# EAGLE library part 5CEFA7F23 (library altera)
5CEFA7F23_ALL_PINS edit this description Auto generated by make-symbol-device-package-bsdl.ulp Rev. 44 Source: 5CEFA7F23_ALL_PINS.txt Connect-List generated from 5CEFA7F23_ALL_PINS.DEV Variant ALL with split-device-symbol.ulp
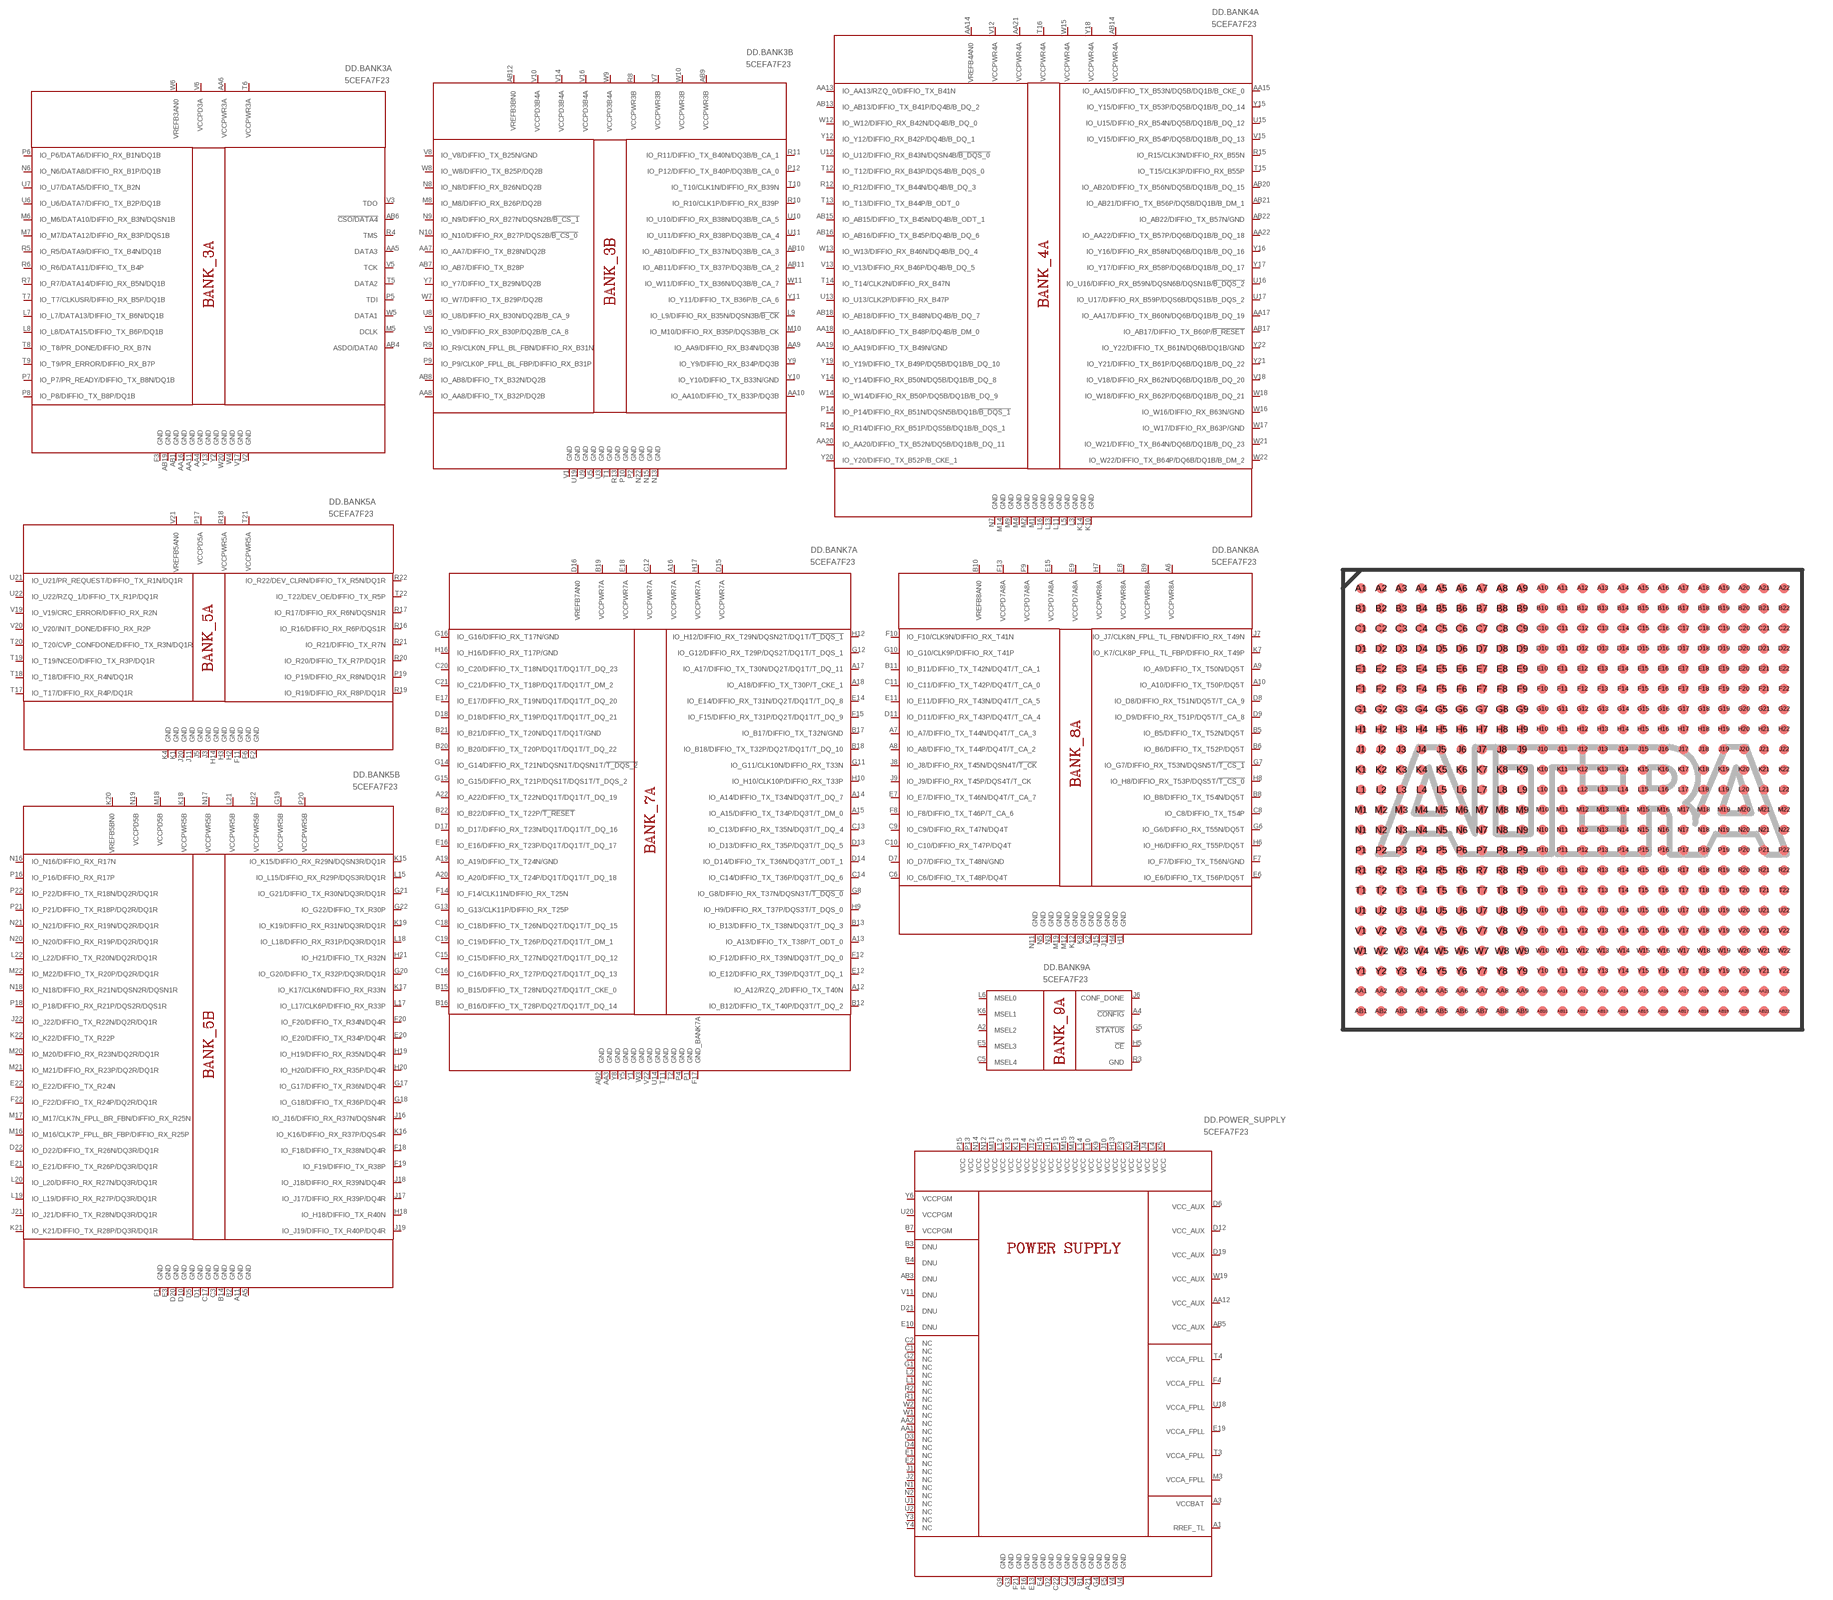
[diagram p0: symbol with the pads of FBGA484; footprint FBGA484]

Designator prefix DD; gates .BANK3A=5CEFA7F23_BANK3A .BANK3B=5CEFA7F23_BANK3B .BANK4A=5CEFA7F23_BANK4A .BANK5A=5CEFA7F23_BANK5A .BANK5B=5CEFA7F23_BANK5B .BANK7A=5CEFA7F23_BANK7A .BANK8A=5CEFA7F23_BANK8A .BANK9A=5CEFA7F23_BANK9A .POWER_SUPPLY=5CEFA7F23_POWER_SUPPLY

## 5CEFA7F23I7  [FBGA484]
A1  .POWER_SUPPLY:RREF_TL  pwr
A2  .BANK9A:MSEL2  in
A3  .POWER_SUPPLY:VCCBAT  pwr
A4  .BANK9A:!CONFIG
A5  .BANK5B:GND  pwr
A6  .BANK8A:VCCPWR8A  pwr
A7  .BANK8A:IO_A7/DIFFIO_TX_T44N/DQ4T/T_CA_3
A8  .BANK8A:IO_A8/DIFFIO_TX_T44P/DQ4T/T_CA_2
A9  .BANK8A:IO_A9/DIFFIO_TX_T50N/DQ5T
A10  .BANK8A:IO_A10/DIFFIO_TX_T50P/DQ5T
A11  .BANK5B:GND  pwr
A12  .BANK7A:IO_A12/RZQ_2/DIFFIO_TX_T40N
A13  .BANK7A:IO_A13/DIFFIO_TX_T38P/T_ODT_0
A14  .BANK7A:IO_A14/DIFFIO_TX_T34N/DQ3T/T_DQ_7
A15  .BANK7A:IO_A15/DIFFIO_TX_T34P/DQ3T/T_DM_0
A16  .BANK7A:VCCPWR7A  pwr
A17  .BANK7A:IO_A17/DIFFIO_TX_T30N/DQ2T/DQ1T/T_DQ_11
A18  .BANK7A:IO_A18/DIFFIO_TX_T30P/T_CKE_1
A19  .BANK7A:IO_A19/DIFFIO_TX_T24N/GND
A20  .BANK7A:IO_A20/DIFFIO_TX_T24P/DQ1T/DQ1T/T_DQ_18
A21  .POWER_SUPPLY:GND  pwr
A22  .BANK7A:IO_A22/DIFFIO_TX_T22N/DQ1T/DQ1T/T_DQ_19
AA1  .POWER_SUPPLY:NC  nc
AA2  .POWER_SUPPLY:NC  nc
AA3  .BANK7A:GND  pwr
AA4  .BANK3A:GND  pwr
AA5  .BANK3A:DATA3
AA6  .BANK3A:VCCPWR3A  pwr
AA7  .BANK3B:IO_AA7/DIFFIO_TX_B28N/DQ2B
AA8  .BANK3B:IO_AA8/DIFFIO_TX_B32P/DQ2B
AA9  .BANK3B:IO_AA9/DIFFIO_RX_B34N/DQ3B
AA10  .BANK3B:IO_AA10/DIFFIO_TX_B33P/DQ3B
AA11  .BANK3A:GND  pwr
AA12  .POWER_SUPPLY:VCC_AUX  pwr
AA13  .BANK4A:IO_AA13/RZQ_0/DIFFIO_TX_B41N
AA14  .BANK4A:VREFB4AN0  pwr
AA15  .BANK4A:IO_AA15/DIFFIO_TX_B53N/DQ5B/DQ1B/B_CKE_0
AA16  .BANK3A:GND  pwr
AA17  .BANK4A:IO_AA17/DIFFIO_TX_B60N/DQ6B/DQ1B/B_DQ_19
AA18  .BANK4A:IO_AA18/DIFFIO_TX_B48P/DQ4B/B_DM_0
AA19  .BANK4A:IO_AA19/DIFFIO_TX_B49N/GND
AA20  .BANK4A:IO_AA20/DIFFIO_TX_B52N/DQ5B/DQ1B/B_DQ_11
AA21  .BANK4A:VCCPWR4A  pwr
AA22  .BANK4A:IO_AA22/DIFFIO_TX_B57P/DQ6B/DQ1B/B_DQ_18
AB1  .BANK3A:GND  pwr
AB2  .BANK7A:GND  pwr
AB3  .POWER_SUPPLY:DNU  pwr
AB4  .BANK3A:ASDO/DATA0
AB5  .POWER_SUPPLY:VCC_AUX  pwr
AB6  .BANK3A:!CSO/DATA4
AB7  .BANK3B:IO_AB7/DIFFIO_TX_B28P
AB8  .BANK3B:IO_AB8/DIFFIO_TX_B32N/DQ2B
AB9  .BANK3B:VCCPWR3B  pwr
AB10  .BANK3B:IO_AB10/DIFFIO_TX_B37N/DQ3B/B_CA_3
AB11  .BANK3B:IO_AB11/DIFFIO_TX_B37P/DQ3B/B_CA_2
AB12  .BANK3B:VREFB3BN0  pwr
AB13  .BANK4A:IO_AB13/DIFFIO_TX_B41P/DQ4B/B_DQ_2
AB14  .BANK4A:VCCPWR4A  pwr
AB15  .BANK4A:IO_AB15/DIFFIO_TX_B45N/DQ4B/B_ODT_1
AB16  .BANK4A:IO_AB16/DIFFIO_TX_B45P/DQ4B/B_DQ_6
AB17  .BANK4A:IO_AB17/DIFFIO_TX_B60P/!B_RESET
AB18  .BANK4A:IO_AB18/DIFFIO_TX_B48N/DQ4B/B_DQ_7
AB19  .BANK3A:GND  pwr
AB20  .BANK4A:IO_AB20/DIFFIO_TX_B56N/DQ5B/DQ1B/B_DQ_15
AB21  .BANK4A:IO_AB21/DIFFIO_TX_B56P/DQ5B/DQ1B/B_DM_1
AB22  .BANK4A:IO_AB22/DIFFIO_TX_B57N/GND
B1  .POWER_SUPPLY:GND  pwr
B2  .BANK5B:GND  pwr
B3  .POWER_SUPPLY:DNU  pwr
B4  .POWER_SUPPLY:DNU  pwr
B5  .BANK8A:IO_B5/DIFFIO_TX_T52N/DQ5T
B6  .BANK8A:IO_B6/DIFFIO_TX_T52P/DQ5T
B7  .POWER_SUPPLY:VCCPGM  pwr
B8  .BANK8A:IO_B8/DIFFIO_TX_T54N/DQ5T
B9  .BANK8A:VCCPWR8A  pwr
B10  .BANK8A:VREFB8AN0  pwr
B11  .BANK8A:IO_B11/DIFFIO_TX_T42N/DQ4T/T_CA_1
B12  .BANK7A:IO_B12/DIFFIO_TX_T40P/DQ3T/T_DQ_2
B13  .BANK7A:IO_B13/DIFFIO_TX_T38N/DQ3T/T_DQ_3
B14  .BANK5B:GND  pwr
B15  .BANK7A:IO_B15/DIFFIO_TX_T28N/DQ2T/DQ1T/T_CKE_0
B16  .BANK7A:IO_B16/DIFFIO_TX_T28P/DQ2T/DQ1T/T_DQ_14
B17  .BANK7A:IO_B17/DIFFIO_TX_T32N/GND
B18  .BANK7A:IO_B18/DIFFIO_TX_T32P/DQ2T/DQ1T/T_DQ_10
B19  .BANK7A:VCCPWR7A  pwr
B20  .BANK7A:IO_B20/DIFFIO_TX_T20P/DQ1T/DQ1T/T_DQ_22
B21  .BANK7A:IO_B21/DIFFIO_TX_T20N/DQ1T/DQ1T/GND
B22  .BANK7A:IO_B22/DIFFIO_TX_T22P/!T_RESET
C1  .POWER_SUPPLY:NC  nc
C2  .POWER_SUPPLY:NC  nc
C3  .BANK5B:GND  pwr
C4  .POWER_SUPPLY:GND  pwr
C5  .BANK9A:MSEL4  in
C6  .BANK8A:IO_C6/DIFFIO_TX_T48P/DQ4T
C7  .POWER_SUPPLY:GND  pwr
C8  .BANK8A:IO_C8/DIFFIO_TX_T54P
C9  .BANK8A:IO_C9/DIFFIO_RX_T47N/DQ4T
C10  .BANK8A:IO_C10/DIFFIO_RX_T47P/DQ4T
C11  .BANK8A:IO_C11/DIFFIO_TX_T42P/DQ4T/T_CA_0
C12  .BANK7A:VCCPWR7A  pwr
C13  .BANK7A:IO_C13/DIFFIO_RX_T35N/DQ3T/T_DQ_4
C14  .BANK7A:IO_C14/DIFFIO_TX_T36P/DQ3T/T_DQ_6
C15  .BANK7A:IO_C15/DIFFIO_RX_T27N/DQ2T/DQ1T/T_DQ_12
C16  .BANK7A:IO_C16/DIFFIO_RX_T27P/DQ2T/DQ1T/T_DQ_13
C17  .BANK5B:GND  pwr
C18  .BANK7A:IO_C18/DIFFIO_TX_T26N/DQ2T/DQ1T/T_DQ_15
C19  .BANK7A:IO_C19/DIFFIO_TX_T26P/DQ2T/DQ1T/T_DM_1
C20  .BANK7A:IO_C20/DIFFIO_TX_T18N/DQ1T/DQ1T/T_DQ_23
C21  .BANK7A:IO_C21/DIFFIO_TX_T18P/DQ1T/DQ1T/T_DM_2
C22  .POWER_SUPPLY:GND  pwr
D1  .BANK5B:GND  pwr
D2  .POWER_SUPPLY:GND  pwr
D3  .POWER_SUPPLY:NC  nc
D4  .POWER_SUPPLY:NC  nc
D5  .BANK5B:GND  pwr
D6  .POWER_SUPPLY:VCC_AUX  pwr
D7  .BANK8A:IO_D7/DIFFIO_TX_T48N/GND
D8  .BANK8A:IO_D8/DIFFIO_RX_T51N/DQ5T/T_CA_9
D9  .BANK8A:IO_D9/DIFFIO_RX_T51P/DQ5T/T_CA_8
D10  .BANK5B:GND  pwr
D11  .BANK8A:IO_D11/DIFFIO_RX_T43P/DQ4T/T_CA_4
D12  .POWER_SUPPLY:VCC_AUX  pwr
D13  .BANK7A:IO_D13/DIFFIO_RX_T35P/DQ3T/T_DQ_5
D14  .BANK7A:IO_D14/DIFFIO_TX_T36N/DQ3T/T_ODT_1
D15  .BANK7A:VCCPWR7A  pwr
D16  .BANK7A:VREFB7AN0  pwr
D17  .BANK7A:IO_D17/DIFFIO_RX_T23N/DQ1T/DQ1T/T_DQ_16
D18  .BANK7A:IO_D18/DIFFIO_RX_T19P/DQ1T/DQ1T/T_DQ_21
D19  .POWER_SUPPLY:VCC_AUX  pwr
D20  .BANK5B:GND  pwr
D21  .POWER_SUPPLY:DNU  pwr
D22  .BANK5B:IO_D22/DIFFIO_TX_R26N/DQ3R/DQ1R
E1  .POWER_SUPPLY:NC  nc
E2  .POWER_SUPPLY:NC  nc
E3  .BANK5B:GND  pwr
E4  .POWER_SUPPLY:GND  pwr
E5  .BANK9A:MSEL3  in
E6  .BANK8A:IO_E6/DIFFIO_TX_T56P/DQ5T
E7  .BANK8A:IO_E7/DIFFIO_TX_T46N/DQ4T/T_CA_7
E8  .BANK8A:VCCPWR8A  pwr
E9  .BANK8A:VCCPD7A8A  pwr
E10  .POWER_SUPPLY:DNU  pwr
E11  .BANK8A:IO_E11/DIFFIO_RX_T43N/DQ4T/T_CA_5
E12  .BANK7A:IO_E12/DIFFIO_RX_T39P/DQ3T/T_DQ_1
E13  .POWER_SUPPLY:GND  pwr
E14  .BANK7A:IO_E14/DIFFIO_RX_T31N/DQ2T/DQ1T/T_DQ_8
E15  .BANK8A:VCCPD7A8A  pwr
E16  .BANK7A:IO_E16/DIFFIO_RX_T23P/DQ1T/DQ1T/T_DQ_17
E17  .BANK7A:IO_E17/DIFFIO_RX_T19N/DQ1T/DQ1T/T_DQ_20
E18  .BANK7A:VCCPWR7A  pwr
E19  .POWER_SUPPLY:VCCA_FPLL  pwr
E20  .BANK5B:IO_E20/DIFFIO_TX_R34P/DQ4R
E21  .BANK5B:IO_E21/DIFFIO_TX_R26P/DQ3R/DQ1R
E22  .BANK5B:IO_E22/DIFFIO_TX_R24N
F1  .BANK5B:GND  pwr
F2  .BANK5A:GND  pwr
F3  .BANK3A:GND  pwr
F4  .POWER_SUPPLY:VCCA_FPLL  pwr
F5  .POWER_SUPPLY:GND  pwr
F6  .BANK5A:GND  pwr
F7  .BANK8A:IO_F7/DIFFIO_TX_T56N/GND
F8  .BANK8A:IO_F8/DIFFIO_TX_T46P/T_CA_6
F9  .BANK8A:VCCPD7A8A  pwr
F10  .BANK8A:IO_F10/CLK9N/DIFFIO_RX_T41N
F11  .BANK5A:GND  pwr
F12  .BANK7A:IO_F12/DIFFIO_RX_T39N/DQ3T/T_DQ_0
F13  .BANK8A:VCCPD7A8A  pwr
F14  .BANK7A:IO_F14/CLK11N/DIFFIO_RX_T25N
F15  .BANK7A:IO_F15/DIFFIO_RX_T31P/DQ2T/DQ1T/T_DQ_9
F16  .POWER_SUPPLY:GND  pwr
F17  .BANK7A:GND_BANK7A  pwr
F18  .BANK5B:IO_F18/DIFFIO_TX_R38N/DQ4R
F19  .BANK5B:IO_F19/DIFFIO_TX_R38P
F20  .BANK5B:IO_F20/DIFFIO_TX_R34N/DQ4R
F21  .POWER_SUPPLY:GND  pwr
F22  .BANK5B:IO_F22/DIFFIO_TX_R24P/DQ2R/DQ1R
G1  .POWER_SUPPLY:NC  nc
G2  .POWER_SUPPLY:NC  nc
G3  .POWER_SUPPLY:GND  pwr
G4  .POWER_SUPPLY:GND  pwr
G5  .BANK9A:!STATUS
G6  .BANK8A:IO_G6/DIFFIO_RX_T55N/DQ5T
G7  .BANK8A:IO_G7/DIFFIO_RX_T53N/DQSN5T/!T_CS_1
G8  .BANK7A:IO_G8/DIFFIO_RX_T37N/DQSN3T/!T_DQS_0
G9  .POWER_SUPPLY:GND  pwr
G10  .BANK8A:IO_G10/CLK9P/DIFFIO_RX_T41P
G11  .BANK7A:IO_G11/CLK10N/DIFFIO_RX_T33N
G12  .BANK7A:IO_G12/DIFFIO_RX_T29P/DQS2T/DQ1T/T_DQS_1
G13  .BANK7A:IO_G13/CLK11P/DIFFIO_RX_T25P
G14  .BANK7A:IO_G14/DIFFIO_RX_T21N/DQSN1T/DQSN1T/!T_DQS_2
G15  .BANK7A:IO_G15/DIFFIO_RX_T21P/DQS1T/DQS1T/T_DQS_2
G16  .BANK7A:IO_G16/DIFFIO_RX_T17N/GND
G17  .BANK5B:IO_G17/DIFFIO_TX_R36N/DQ4R
G18  .BANK5B:IO_G18/DIFFIO_TX_R36P/DQ4R
G19  .BANK5B:VCCPWR5B  pwr
G20  .BANK5B:IO_G20/DIFFIO_TX_R32P/DQ3R/DQ1R
G21  .BANK5B:IO_G21/DIFFIO_TX_R30N/DQ3R/DQ1R
G22  .BANK5B:IO_G22/DIFFIO_TX_R30P
H1  .BANK8A:GND  pwr
H2  .BANK5A:GND  pwr
H3  .BANK5A:GND  pwr
H4  .BANK8A:GND  pwr
H5  .BANK9A:!CE
H6  .BANK8A:IO_H6/DIFFIO_RX_T55P/DQ5T
H7  .BANK8A:VCCPWR8A  pwr
H8  .BANK8A:IO_H8/DIFFIO_RX_T53P/DQS5T/!T_CS_0
H9  .BANK7A:IO_H9/DIFFIO_RX_T37P/DQS3T/T_DQS_0
H10  .BANK7A:IO_H10/CLK10P/DIFFIO_RX_T33P
H11  .POWER_SUPPLY:VCC  pwr
H12  .BANK7A:IO_H12/DIFFIO_RX_T29N/DQSN2T/DQ1T/!T_DQS_1
H13  .POWER_SUPPLY:VCC  pwr
H14  .BANK5A:GND  pwr
H15  .POWER_SUPPLY:VCC  pwr
H16  .BANK7A:IO_H16/DIFFIO_RX_T17P/GND
H17  .BANK7A:VCCPWR7A  pwr
H18  .BANK5B:IO_H18/DIFFIO_TX_R40N
H19  .BANK5B:IO_H19/DIFFIO_RX_R35N/DQ4R
H20  .BANK5B:IO_H20/DIFFIO_RX_R35P/DQ4R
H21  .BANK5B:IO_H21/DIFFIO_TX_R32N
H22  .BANK5B:VCCPWR5B  pwr
J1  .POWER_SUPPLY:NC  nc
J2  .POWER_SUPPLY:NC  nc
J3  .BANK5A:GND  pwr
J4  .POWER_SUPPLY:VCC  pwr
J5  .BANK5A:GND  pwr
J6  .BANK9A:CONF_DONE
J7  .BANK8A:IO_J7/CLK8N_FPLL_TL_FBN/DIFFIO_RX_T49N
J8  .BANK8A:IO_J8/DIFFIO_RX_T45N/DQSN4T/!T_CK
J9  .BANK8A:IO_J9/DIFFIO_RX_T45P/DQS4T/T_CK
J10  .POWER_SUPPLY:VCC  pwr
J11  .BANK5A:GND  pwr
J12  .POWER_SUPPLY:VCC  pwr
J13  .BANK8A:GND  pwr
J14  .POWER_SUPPLY:VCC  pwr
J15  .BANK8A:GND  pwr
J16  .BANK5B:IO_J16/DIFFIO_RX_R37N/DQSN4R
J17  .BANK5B:IO_J17/DIFFIO_RX_R39P/DQ4R
J18  .BANK5B:IO_J18/DIFFIO_RX_R39N/DQ4R
J19  .BANK5B:IO_J19/DIFFIO_TX_R40P/DQ4R
J20  .BANK5A:GND  pwr
J21  .BANK5B:IO_J21/DIFFIO_TX_R28N/DQ3R/DQ1R
J22  .BANK5B:IO_J22/DIFFIO_TX_R22N/DQ2R/DQ1R
K1  .BANK5A:GND  pwr
K2  .BANK8A:GND  pwr
K3  .POWER_SUPPLY:VCC  pwr
K4  .BANK5A:GND  pwr
K5  .POWER_SUPPLY:VCC  pwr
K6  .BANK9A:MSEL1  in
K7  .BANK8A:IO_K7/CLK8P_FPLL_TL_FBP/DIFFIO_RX_T49P
K8  .BANK8A:GND  pwr
K9  .POWER_SUPPLY:VCC  pwr
K10  .BANK4A:GND  pwr
K11  .POWER_SUPPLY:VCC  pwr
K12  .BANK8A:GND  pwr
K13  .POWER_SUPPLY:VCC  pwr
K14  .BANK4A:GND  pwr
K15  .BANK5B:IO_K15/DIFFIO_RX_R29N/DQSN3R/DQ1R
K16  .BANK5B:IO_K16/DIFFIO_RX_R37P/DQS4R
K17  .BANK5B:IO_K17/CLK6N/DIFFIO_RX_R33N
K18  .BANK5B:VCCPWR5B  pwr
K19  .BANK5B:IO_K19/DIFFIO_RX_R31N/DQ3R/DQ1R
K20  .BANK5B:VREFB5BN0  pwr
K21  .BANK5B:IO_K21/DIFFIO_TX_R28P/DQ3R/DQ1R
K22  .BANK5B:IO_K22/DIFFIO_TX_R22P
L1  .POWER_SUPPLY:NC  nc
L2  .POWER_SUPPLY:NC  nc
L3  .BANK4A:GND  pwr
L4  .POWER_SUPPLY:VCC  pwr
L5  .BANK4A:GND  pwr
L6  .BANK9A:MSEL0  in
L7  .BANK3A:IO_L7/DATA13/DIFFIO_TX_B6N/DQ1B
L8  .BANK3A:IO_L8/DATA15/DIFFIO_TX_B6P/DQ1B
L9  .BANK3B:IO_L9/DIFFIO_RX_B35N/DQSN3B/!B_CK
L10  .POWER_SUPPLY:VCC  pwr
L11  .BANK4A:GND  pwr
L12  .POWER_SUPPLY:VCC  pwr
L13  .BANK4A:GND  pwr
L14  .POWER_SUPPLY:VCC  pwr
L15  .BANK5B:IO_L15/DIFFIO_RX_R29P/DQS3R/DQ1R
L16  .BANK4A:GND  pwr
L17  .BANK5B:IO_L17/CLK6P/DIFFIO_RX_R33P
L18  .BANK5B:IO_L18/DIFFIO_RX_R31P/DQ3R/DQ1R
L19  .BANK5B:IO_L19/DIFFIO_RX_R27P/DQ3R/DQ1R
L20  .BANK5B:IO_L20/DIFFIO_RX_R27N/DQ3R/DQ1R
L21  .BANK5B:VCCPWR5B  pwr
L22  .BANK5B:IO_L22/DIFFIO_TX_R20N/DQ2R/DQ1R
M1  .BANK4A:GND  pwr
M2  .BANK4A:GND  pwr
M3  .POWER_SUPPLY:VCCA_FPLL  pwr
M4  .BANK4A:GND  pwr
M5  .BANK3A:DCLK
M6  .BANK3A:IO_M6/DATA10/DIFFIO_RX_B3N/DQSN1B
M7  .BANK3A:IO_M7/DATA12/DIFFIO_RX_B3P/DQS1B
M8  .BANK3B:IO_M8/DIFFIO_RX_B26P/DQ2B
M9  .BANK4A:GND  pwr
M10  .BANK3B:IO_M10/DIFFIO_RX_B35P/DQS3B/B_CK
M11  .POWER_SUPPLY:VCC  pwr
M12  .BANK8A:GND  pwr
M13  .POWER_SUPPLY:VCC  pwr
M14  .BANK4A:GND  pwr
M15  .POWER_SUPPLY:VCC  pwr
M16  .BANK5B:IO_M16/CLK7P_FPLL_BR_FBP/DIFFIO_RX_R25P
M17  .BANK5B:IO_M17/CLK7N_FPLL_BR_FBN/DIFFIO_RX_R25N
M18  .BANK5B:VCCPD5B  pwr
M19  .BANK8A:GND  pwr
M20  .BANK5B:IO_M20/DIFFIO_RX_R23N/DQ2R/DQ1R
M21  .BANK5B:IO_M21/DIFFIO_RX_R23P/DQ2R/DQ1R
M22  .BANK5B:IO_M22/DIFFIO_TX_R20P/DQ2R/DQ1R
N1  .POWER_SUPPLY:NC  nc
N2  .POWER_SUPPLY:NC  nc
N3  .BANK8A:GND  pwr
N4  .POWER_SUPPLY:VCC  pwr
N5  .BANK8A:GND  pwr
N6  .BANK3A:IO_N6/DATA8/DIFFIO_RX_B1P/DQ1B
N7  .BANK4A:GND  pwr
N8  .BANK3B:IO_N8/DIFFIO_RX_B26N/DQ2B
N9  .BANK3B:IO_N9/DIFFIO_RX_B27N/DQSN2B/!B_CS_1
N10  .BANK3B:IO_N10/DIFFIO_RX_B27P/DQS2B/!B_CS_0
N11  .BANK8A:GND  pwr
N12  .POWER_SUPPLY:VCC  pwr
N13  .BANK3B:GND  pwr
N14  .POWER_SUPPLY:VCC  pwr
N15  .BANK3B:GND  pwr
N16  .BANK5B:IO_N16/DIFFIO_RX_R17N
N17  .BANK5B:VCCPWR5B  pwr
N18  .BANK5B:IO_N18/DIFFIO_RX_R21N/DQSN2R/DQSN1R
N19  .BANK5B:VCCPD5B  pwr
N20  .BANK5B:IO_N20/DIFFIO_RX_R19P/DQ2R/DQ1R
N21  .BANK5B:IO_N21/DIFFIO_RX_R19N/DQ2R/DQ1R
N22  .BANK3B:GND  pwr
P1  .BANK7A:GND  pwr
P2  .BANK3B:GND  pwr
P3  .POWER_SUPPLY:VCC  pwr
P4  .BANK7A:GND  pwr
P5  .BANK3A:TDI
P6  .BANK3A:IO_P6/DATA6/DIFFIO_RX_B1N/DQ1B
P7  .BANK3A:IO_P7/PR_READY/DIFFIO_TX_B8N/DQ1B
P8  .BANK3A:IO_P8/DIFFIO_TX_B8P/DQ1B
P9  .BANK3B:IO_P9/CLK0P_FPLL_BL_FBP/DIFFIO_RX_B31P
P10  .BANK3B:GND  pwr
P11  .POWER_SUPPLY:VCC  pwr
P12  .BANK3B:IO_P12/DIFFIO_TX_B40P/DQ3B/B_CA_0
P13  .POWER_SUPPLY:VCC  pwr
P14  .BANK4A:IO_P14/DIFFIO_RX_B51N/DQSN5B/DQ1B/!B_DQS_1
P15  .POWER_SUPPLY:VCC  pwr
P16  .BANK5B:IO_P16/DIFFIO_RX_R17P
P17  .BANK5A:VCCPD5A  pwr
P18  .BANK5B:IO_P18/DIFFIO_RX_R21P/DQS2R/DQS1R
P19  .BANK5A:IO_P19/DIFFIO_RX_R8N/DQ1R
P20  .BANK5B:VCCPWR5B  pwr
P21  .BANK5B:IO_P21/DIFFIO_TX_R18P/DQ2R/DQ1R
P22  .BANK5B:IO_P22/DIFFIO_TX_R18N/DQ2R/DQ1R
R1  .POWER_SUPPLY:NC  nc
R2  .POWER_SUPPLY:NC  nc
R3  .BANK9A:GND
R4  .BANK3A:TMS
R5  .BANK3A:IO_R5/DATA9/DIFFIO_TX_B4N/DQ1B
R6  .BANK3A:IO_R6/DATA11/DIFFIO_TX_B4P
R7  .BANK3A:IO_R7/DATA14/DIFFIO_RX_B5N/DQ1B
R8  .BANK3B:VCCPWR3B  pwr
R9  .BANK3B:IO_R9/CLK0N_FPLL_BL_FBN/DIFFIO_RX_B31N
R10  .BANK3B:IO_R10/CLK1P/DIFFIO_RX_B39P
R11  .BANK3B:IO_R11/DIFFIO_TX_B40N/DQ3B/B_CA_1
R12  .BANK4A:IO_R12/DIFFIO_TX_B44N/DQ4B/B_DQ_3
R13  .BANK3B:GND  pwr
R14  .BANK4A:IO_R14/DIFFIO_RX_B51P/DQS5B/DQ1B/B_DQS_1
R15  .BANK4A:IO_R15/CLK3N/DIFFIO_RX_B55N
R16  .BANK5A:IO_R16/DIFFIO_RX_R6P/DQS1R
R17  .BANK5A:IO_R17/DIFFIO_RX_R6N/DQSN1R
R18  .BANK5A:VCCPWR5A  pwr
R19  .BANK5A:IO_R19/DIFFIO_RX_R8P/DQ1R
R20  .BANK5A:IO_R20/DIFFIO_TX_R7P/DQ1R
R21  .BANK5A:IO_R21/DIFFIO_TX_R7N
R22  .BANK5A:IO_R22/DEV_CLRN/DIFFIO_TX_R5N/DQ1R
T1  .BANK3B:GND  pwr
T2  .BANK7A:GND  pwr
T3  .POWER_SUPPLY:VCCA_FPLL  pwr
T4  .POWER_SUPPLY:VCCA_FPLL  pwr
T5  .BANK3A:DATA2
T6  .BANK3A:VCCPWR3A  pwr
T7  .BANK3A:IO_T7/CLKUSR/DIFFIO_RX_B5P/DQ1B
T8  .BANK3A:IO_T8/PR_DONE/DIFFIO_RX_B7N
T9  .BANK3A:IO_T9/PR_ERROR/DIFFIO_RX_B7P
T10  .BANK3B:IO_T10/CLK1N/DIFFIO_RX_B39N
T11  .BANK7A:GND  pwr
T12  .BANK4A:IO_T12/DIFFIO_RX_B43P/DQS4B/B_DQS_0
T13  .BANK4A:IO_T13/DIFFIO_TX_B44P/B_ODT_0
T14  .BANK4A:IO_T14/CLK2N/DIFFIO_RX_B47N
T15  .BANK4A:IO_T15/CLK3P/DIFFIO_RX_B55P
T16  .BANK4A:VCCPWR4A  pwr
T17  .BANK5A:IO_T17/DIFFIO_RX_R4P/DQ1R
T18  .BANK5A:IO_T18/DIFFIO_RX_R4N/DQ1R
T19  .BANK5A:IO_T19/NCEO/DIFFIO_TX_R3P/DQ1R
T20  .BANK5A:IO_T20/CVP_CONFDONE/DIFFIO_TX_R3N/DQ1R
T21  .BANK5A:VCCPWR5A  pwr
T22  .BANK5A:IO_T22/DEV_OE/DIFFIO_TX_R5P
U1  .POWER_SUPPLY:NC  nc
U2  .POWER_SUPPLY:NC  nc
U3  .BANK3B:GND  pwr
U4  .POWER_SUPPLY:GND  pwr
U5  .BANK3B:GND  pwr
U6  .BANK3A:IO_U6/DATA7/DIFFIO_TX_B2P/DQ1B
U7  .BANK3A:IO_U7/DATA5/DIFFIO_TX_B2N
U8  .BANK3B:IO_U8/DIFFIO_RX_B30N/DQ2B/B_CA_9
U9  .BANK3B:GND  pwr
U10  .BANK3B:IO_U10/DIFFIO_RX_B38N/DQ3B/B_CA_5
U11  .BANK3B:IO_U11/DIFFIO_RX_B38P/DQ3B/B_CA_4
U12  .BANK4A:IO_U12/DIFFIO_RX_B43N/DQSN4B/!B_DQS_0
U13  .BANK4A:IO_U13/CLK2P/DIFFIO_RX_B47P
U14  .BANK7A:GND  pwr
U15  .BANK4A:IO_U15/DIFFIO_RX_B54N/DQ5B/DQ1B/B_DQ_12
U16  .BANK4A:IO_U16/DIFFIO_RX_B59N/DQSN6B/DQSN1B/!B_DQS_2
U17  .BANK4A:IO_U17/DIFFIO_RX_B59P/DQS6B/DQS1B/B_DQS_2
U18  .POWER_SUPPLY:VCCA_FPLL  pwr
U19  .BANK3B:GND  pwr
U20  .POWER_SUPPLY:VCCPGM  pwr
U21  .BANK5A:IO_U21/PR_REQUEST/DIFFIO_TX_R1N/DQ1R
U22  .BANK5A:IO_U22/RZQ_1/DIFFIO_TX_R1P/DQ1R
V1  .BANK3B:GND  pwr
V2  .BANK3A:GND  pwr
V3  .BANK3A:TDO
V4  .POWER_SUPPLY:GND  pwr
V5  .BANK3A:TCK
V6  .BANK3A:VCCPD3A  pwr
V7  .BANK3B:VCCPWR3B  pwr
V8  .BANK3B:IO_V8/DIFFIO_TX_B25N/GND
V9  .BANK3B:IO_V9/DIFFIO_RX_B30P/DQ2B/B_CA_8
V10  .BANK3B:VCCPD3B4A  pwr
V11  .POWER_SUPPLY:DNU  pwr
V12  .BANK4A:VCCPWR4A  pwr
V13  .BANK4A:IO_V13/DIFFIO_RX_B46P/DQ4B/B_DQ_5
V14  .BANK3B:VCCPD3B4A  pwr
V15  .BANK4A:IO_V15/DIFFIO_RX_B54P/DQ5B/DQ1B/B_DQ_13
V16  .BANK3B:VCCPD3B4A  pwr
V17  .BANK3A:GND  pwr
V18  .BANK4A:IO_V18/DIFFIO_RX_B62N/DQ6B/DQ1B/B_DQ_20
V19  .BANK5A:IO_V19/CRC_ERROR/DIFFIO_RX_R2N
V20  .BANK5A:IO_V20/INIT_DONE/DIFFIO_RX_R2P
V21  .BANK5A:VREFB5AN0  pwr
V22  .BANK7A:GND  pwr
W1  .POWER_SUPPLY:NC  nc
W2  .POWER_SUPPLY:NC  nc
W3  .BANK7A:GND  pwr
W4  .BANK3A:GND  pwr
W5  .BANK3A:DATA1
W6  .BANK3A:VREFB3AN0  pwr
W7  .BANK3B:IO_W7/DIFFIO_TX_B29P/DQ2B
W8  .BANK3B:IO_W8/DIFFIO_TX_B25P/DQ2B
W9  .BANK3B:VCCPD3B4A  pwr
W10  .BANK3B:VCCPWR3B  pwr
W11  .BANK3B:IO_W11/DIFFIO_TX_B36N/DQ3B/B_CA_7
W12  .BANK4A:IO_W12/DIFFIO_RX_B42N/DQ4B/B_DQ_0
W13  .BANK4A:IO_W13/DIFFIO_RX_B46N/DQ4B/B_DQ_4
W14  .BANK4A:IO_W14/DIFFIO_RX_B50P/DQ5B/DQ1B/B_DQ_9
W15  .BANK4A:VCCPWR4A  pwr
W16  .BANK4A:IO_W16/DIFFIO_RX_B63N/GND
W17  .BANK4A:IO_W17/DIFFIO_RX_B63P/GND
W18  .BANK4A:IO_W18/DIFFIO_RX_B62P/DQ6B/DQ1B/B_DQ_21
W19  .POWER_SUPPLY:VCC_AUX  pwr
W20  .BANK3A:GND  pwr
W21  .BANK4A:IO_W21/DIFFIO_TX_B64N/DQ6B/DQ1B/B_DQ_23
W22  .BANK4A:IO_W22/DIFFIO_TX_B64P/DQ6B/DQ1B/B_DM_2
Y1  .BANK7A:GND  pwr
Y2  .BANK3A:GND  pwr
Y3  .POWER_SUPPLY:NC  nc
Y4  .POWER_SUPPLY:NC  nc
Y5  .BANK7A:GND  pwr
Y6  .POWER_SUPPLY:VCCPGM  pwr
Y7  .BANK3B:IO_Y7/DIFFIO_TX_B29N/DQ2B
Y8  .BANK7A:GND  pwr
Y9  .BANK3B:IO_Y9/DIFFIO_RX_B34P/DQ3B
Y10  .BANK3B:IO_Y10/DIFFIO_TX_B33N/GND
Y11  .BANK3B:IO_Y11/DIFFIO_TX_B36P/B_CA_6
Y12  .BANK4A:IO_Y12/DIFFIO_RX_B42P/DQ4B/B_DQ_1
Y13  .BANK3A:GND  pwr
Y14  .BANK4A:IO_Y14/DIFFIO_RX_B50N/DQ5B/DQ1B/B_DQ_8
Y15  .BANK4A:IO_Y15/DIFFIO_TX_B53P/DQ5B/DQ1B/B_DQ_14
Y16  .BANK4A:IO_Y16/DIFFIO_RX_B58N/DQ6B/DQ1B/B_DQ_16
Y17  .BANK4A:IO_Y17/DIFFIO_RX_B58P/DQ6B/DQ1B/B_DQ_17
Y18  .BANK4A:VCCPWR4A  pwr
Y19  .BANK4A:IO_Y19/DIFFIO_TX_B49P/DQ5B/DQ1B/B_DQ_10
Y20  .BANK4A:IO_Y20/DIFFIO_TX_B52P/B_CKE_1
Y21  .BANK4A:IO_Y21/DIFFIO_TX_B61P/DQ6B/DQ1B/B_DQ_22
Y22  .BANK4A:IO_Y22/DIFFIO_TX_B61N/DQ6B/DQ1B/GND

## Footprint FBGA484 (pad centres in mm)
5CEFA7F23_ALL_PINS edit this description Auto generated by make-symbol-device-package-bsdl.ulp Rev. 44 Source: 5CEFA7F23_ALL_PINS.txt
smd 0.5 x 0.5: A1 -10.5,10.5; A2 -9.5,10.5; A3 -8.5,10.5; A4 -7.5,10.5; A5 -6.5,10.5; A6 -5.5,10.5; A7 -4.5,10.5; A8 -3.5,10.5; A9 -2.5,10.5; A10 -1.5,10.5; A11 -0.5,10.5; A12 0.5,10.5; A13 1.5,10.5; A14 2.5,10.5; A15 3.5,10.5; A16 4.5,10.5; A17 5.5,10.5; A18 6.5,10.5; A19 7.5,10.5; A20 8.5,10.5; A21 9.5,10.5; A22 10.5,10.5; AA1 -10.5,-9.5; AA2 -9.5,-9.5; AA3 -8.5,-9.5; AA4 -7.5,-9.5; AA5 -6.5,-9.5; AA6 -5.5,-9.5; AA7 -4.5,-9.5; AA8 -3.5,-9.5; AA9 -2.5,-9.5; AA10 -1.5,-9.5; AA11 -0.5,-9.5; AA12 0.5,-9.5; AA13 1.5,-9.5; AA14 2.5,-9.5; AA15 3.5,-9.5; AA16 4.5,-9.5; AA17 5.5,-9.5; AA18 6.5,-9.5; AA19 7.5,-9.5; AA20 8.5,-9.5; AA21 9.5,-9.5; AA22 10.5,-9.5; AB1 -10.5,-10.5; AB2 -9.5,-10.5; AB3 -8.5,-10.5; AB4 -7.5,-10.5; AB5 -6.5,-10.5; AB6 -5.5,-10.5; AB7 -4.5,-10.5; AB8 -3.5,-10.5; AB9 -2.5,-10.5; AB10 -1.5,-10.5; AB11 -0.5,-10.5; AB12 0.5,-10.5; AB13 1.5,-10.5; AB14 2.5,-10.5; AB15 3.5,-10.5; AB16 4.5,-10.5; AB17 5.5,-10.5; AB18 6.5,-10.5; AB19 7.5,-10.5; AB20 8.5,-10.5; AB21 9.5,-10.5; AB22 10.5,-10.5; B1 -10.5,9.5; B2 -9.5,9.5; B3 -8.5,9.5; B4 -7.5,9.5; B5 -6.5,9.5; B6 -5.5,9.5; B7 -4.5,9.5; B8 -3.5,9.5; B9 -2.5,9.5; B10 -1.5,9.5; B11 -0.5,9.5; B12 0.5,9.5; B13 1.5,9.5; B14 2.5,9.5; B15 3.5,9.5; B16 4.5,9.5; B17 5.5,9.5; B18 6.5,9.5; B19 7.5,9.5; B20 8.5,9.5; B21 9.5,9.5; B22 10.5,9.5; C1 -10.5,8.5; C2 -9.5,8.5; C3 -8.5,8.5; C4 -7.5,8.5; C5 -6.5,8.5; C6 -5.5,8.5; C7 -4.5,8.5; C8 -3.5,8.5; C9 -2.5,8.5; C10 -1.5,8.5; C11 -0.5,8.5; C12 0.5,8.5; C13 1.5,8.5; C14 2.5,8.5; C15 3.5,8.5; C16 4.5,8.5; C17 5.5,8.5; C18 6.5,8.5; C19 7.5,8.5; C20 8.5,8.5; C21 9.5,8.5; C22 10.5,8.5; D1 -10.5,7.5; D2 -9.5,7.5; D3 -8.5,7.5; D4 -7.5,7.5; D5 -6.5,7.5; D6 -5.5,7.5; D7 -4.5,7.5; D8 -3.5,7.5; D9 -2.5,7.5; D10 -1.5,7.5; D11 -0.5,7.5; D12 0.5,7.5; D13 1.5,7.5; D14 2.5,7.5; D15 3.5,7.5; D16 4.5,7.5; D17 5.5,7.5; D18 6.5,7.5; D19 7.5,7.5; D20 8.5,7.5; D21 9.5,7.5; D22 10.5,7.5; E1 -10.5,6.5; E2 -9.5,6.5; E3 -8.5,6.5; E4 -7.5,6.5; E5 -6.5,6.5; E6 -5.5,6.5; E7 -4.5,6.5; E8 -3.5,6.5; E9 -2.5,6.5; E10 -1.5,6.5; E11 -0.5,6.5; E12 0.5,6.5; E13 1.5,6.5; E14 2.5,6.5; E15 3.5,6.5; E16 4.5,6.5; E17 5.5,6.5; E18 6.5,6.5; E19 7.5,6.5; E20 8.5,6.5; E21 9.5,6.5; E22 10.5,6.5; F1 -10.5,5.5; F2 -9.5,5.5; F3 -8.5,5.5; F4 -7.5,5.5; F5 -6.5,5.5; F6 -5.5,5.5; F7 -4.5,5.5; F8 -3.5,5.5; F9 -2.5,5.5; F10 -1.5,5.5; F11 -0.5,5.5; F12 0.5,5.5; F13 1.5,5.5; F14 2.5,5.5; F15 3.5,5.5; F16 4.5,5.5; F17 5.5,5.5; F18 6.5,5.5; F19 7.5,5.5; F20 8.5,5.5; F21 9.5,5.5; F22 10.5,5.5; G1 -10.5,4.5; G2 -9.5,4.5; G3 -8.5,4.5; G4 -7.5,4.5; G5 -6.5,4.5; G6 -5.5,4.5; G7 -4.5,4.5; G8 -3.5,4.5; G9 -2.5,4.5; G10 -1.5,4.5; G11 -0.5,4.5; G12 0.5,4.5; G13 1.5,4.5; G14 2.5,4.5; G15 3.5,4.5; G16 4.5,4.5; G17 5.5,4.5; G18 6.5,4.5; G19 7.5,4.5; G20 8.5,4.5; G21 9.5,4.5; G22 10.5,4.5; H1 -10.5,3.5; H2 -9.5,3.5; H3 -8.5,3.5; H4 -7.5,3.5; H5 -6.5,3.5; H6 -5.5,3.5; H7 -4.5,3.5; H8 -3.5,3.5; H9 -2.5,3.5; H10 -1.5,3.5; H11 -0.5,3.5; H12 0.5,3.5; H13 1.5,3.5; H14 2.5,3.5; H15 3.5,3.5; H16 4.5,3.5; H17 5.5,3.5; H18 6.5,3.5; H19 7.5,3.5; H20 8.5,3.5; H21 9.5,3.5; H22 10.5,3.5; J1 -10.5,2.5; J2 -9.5,2.5; J3 -8.5,2.5; J4 -7.5,2.5; J5 -6.5,2.5; J6 -5.5,2.5; J7 -4.5,2.5; J8 -3.5,2.5; J9 -2.5,2.5; J10 -1.5,2.5; J11 -0.5,2.5; J12 0.5,2.5; J13 1.5,2.5; J14 2.5,2.5; J15 3.5,2.5; J16 4.5,2.5; J17 5.5,2.5; J18 6.5,2.5; J19 7.5,2.5; J20 8.5,2.5; J21 9.5,2.5; J22 10.5,2.5; K1 -10.5,1.5; K2 -9.5,1.5; K3 -8.5,1.5; K4 -7.5,1.5; K5 -6.5,1.5; K6 -5.5,1.5; K7 -4.5,1.5; K8 -3.5,1.5; K9 -2.5,1.5; K10 -1.5,1.5; K11 -0.5,1.5; K12 0.5,1.5; K13 1.5,1.5; K14 2.5,1.5; K15 3.5,1.5; K16 4.5,1.5; K17 5.5,1.5; K18 6.5,1.5; K19 7.5,1.5; K20 8.5,1.5; K21 9.5,1.5; K22 10.5,1.5; L1 -10.5,0.5; L2 -9.5,0.5; L3 -8.5,0.5; L4 -7.5,0.5; L5 -6.5,0.5; L6 -5.5,0.5; L7 -4.5,0.5; L8 -3.5,0.5; L9 -2.5,0.5; L10 -1.5,0.5; L11 -0.5,0.5; L12 0.5,0.5; L13 1.5,0.5; L14 2.5,0.5; L15 3.5,0.5; L16 4.5,0.5; L17 5.5,0.5; L18 6.5,0.5; L19 7.5,0.5; L20 8.5,0.5; L21 9.5,0.5; L22 10.5,0.5; M1 -10.5,-0.5; M2 -9.5,-0.5; M3 -8.5,-0.5; M4 -7.5,-0.5; M5 -6.5,-0.5; M6 -5.5,-0.5; M7 -4.5,-0.5; M8 -3.5,-0.5; M9 -2.5,-0.5; M10 -1.5,-0.5; M11 -0.5,-0.5; M12 0.5,-0.5; M13 1.5,-0.5; M14 2.5,-0.5; M15 3.5,-0.5; M16 4.5,-0.5; M17 5.5,-0.5; M18 6.5,-0.5; M19 7.5,-0.5; M20 8.5,-0.5; M21 9.5,-0.5; M22 10.5,-0.5; N1 -10.5,-1.5; N2 -9.5,-1.5; N3 -8.5,-1.5; N4 -7.5,-1.5; N5 -6.5,-1.5; N6 -5.5,-1.5; N7 -4.5,-1.5; N8 -3.5,-1.5; N9 -2.5,-1.5; N10 -1.5,-1.5; N11 -0.5,-1.5; N12 0.5,-1.5; N13 1.5,-1.5; N14 2.5,-1.5; N15 3.5,-1.5; N16 4.5,-1.5; N17 5.5,-1.5; N18 6.5,-1.5; N19 7.5,-1.5; N20 8.5,-1.5; N21 9.5,-1.5; N22 10.5,-1.5; P1 -10.5,-2.5; P2 -9.5,-2.5; P3 -8.5,-2.5; P4 -7.5,-2.5; P5 -6.5,-2.5; P6 -5.5,-2.5; P7 -4.5,-2.5; P8 -3.5,-2.5; P9 -2.5,-2.5; P10 -1.5,-2.5; P11 -0.5,-2.5; P12 0.5,-2.5; P13 1.5,-2.5; P14 2.5,-2.5; P15 3.5,-2.5; P16 4.5,-2.5; P17 5.5,-2.5; P18 6.5,-2.5; P19 7.5,-2.5; P20 8.5,-2.5; P21 9.5,-2.5; P22 10.5,-2.5; R1 -10.5,-3.5; R2 -9.5,-3.5; R3 -8.5,-3.5; R4 -7.5,-3.5; R5 -6.5,-3.5; R6 -5.5,-3.5; R7 -4.5,-3.5; R8 -3.5,-3.5; R9 -2.5,-3.5; R10 -1.5,-3.5; R11 -0.5,-3.5; R12 0.5,-3.5; R13 1.5,-3.5; R14 2.5,-3.5; R15 3.5,-3.5; R16 4.5,-3.5; R17 5.5,-3.5; R18 6.5,-3.5; R19 7.5,-3.5; R20 8.5,-3.5; R21 9.5,-3.5; R22 10.5,-3.5; T1 -10.5,-4.5; T2 -9.5,-4.5; T3 -8.5,-4.5; T4 -7.5,-4.5; T5 -6.5,-4.5; T6 -5.5,-4.5; T7 -4.5,-4.5; T8 -3.5,-4.5; T9 -2.5,-4.5; T10 -1.5,-4.5; T11 -0.5,-4.5; T12 0.5,-4.5; T13 1.5,-4.5; T14 2.5,-4.5; T15 3.5,-4.5; T16 4.5,-4.5; T17 5.5,-4.5; T18 6.5,-4.5; T19 7.5,-4.5; T20 8.5,-4.5; T21 9.5,-4.5; T22 10.5,-4.5; U1 -10.5,-5.5; U2 -9.5,-5.5; U3 -8.5,-5.5; U4 -7.5,-5.5; U5 -6.5,-5.5; U6 -5.5,-5.5; U7 -4.5,-5.5; U8 -3.5,-5.5; U9 -2.5,-5.5; U10 -1.5,-5.5; U11 -0.5,-5.5; U12 0.5,-5.5; U13 1.5,-5.5; U14 2.5,-5.5; U15 3.5,-5.5; U16 4.5,-5.5; U17 5.5,-5.5; U18 6.5,-5.5; U19 7.5,-5.5; U20 8.5,-5.5; U21 9.5,-5.5; U22 10.5,-5.5; V1 -10.5,-6.5; V2 -9.5,-6.5; V3 -8.5,-6.5; V4 -7.5,-6.5; V5 -6.5,-6.5; V6 -5.5,-6.5; V7 -4.5,-6.5; V8 -3.5,-6.5; V9 -2.5,-6.5; V10 -1.5,-6.5; V11 -0.5,-6.5; V12 0.5,-6.5; V13 1.5,-6.5; V14 2.5,-6.5; V15 3.5,-6.5; V16 4.5,-6.5; V17 5.5,-6.5; V18 6.5,-6.5; V19 7.5,-6.5; V20 8.5,-6.5; V21 9.5,-6.5; V22 10.5,-6.5; W1 -10.5,-7.5; W2 -9.5,-7.5; W3 -8.5,-7.5; W4 -7.5,-7.5; W5 -6.5,-7.5; W6 -5.5,-7.5; W7 -4.5,-7.5; W8 -3.5,-7.5; W9 -2.5,-7.5; W10 -1.5,-7.5; W11 -0.5,-7.5; W12 0.5,-7.5; W13 1.5,-7.5; W14 2.5,-7.5; W15 3.5,-7.5; W16 4.5,-7.5; W17 5.5,-7.5; W18 6.5,-7.5; W19 7.5,-7.5; W20 8.5,-7.5; W21 9.5,-7.5; W22 10.5,-7.5; Y1 -10.5,-8.5; Y2 -9.5,-8.5; Y3 -8.5,-8.5; Y4 -7.5,-8.5; Y5 -6.5,-8.5; Y6 -5.5,-8.5; Y7 -4.5,-8.5; Y8 -3.5,-8.5; Y9 -2.5,-8.5; Y10 -1.5,-8.5; Y11 -0.5,-8.5; Y12 0.5,-8.5; Y13 1.5,-8.5; Y14 2.5,-8.5; Y15 3.5,-8.5; Y16 4.5,-8.5; Y17 5.5,-8.5; Y18 6.5,-8.5; Y19 7.5,-8.5; Y20 8.5,-8.5; Y21 9.5,-8.5; Y22 10.5,-8.5